# EAGLE library part CON_PINHD-1X12 (library akita)
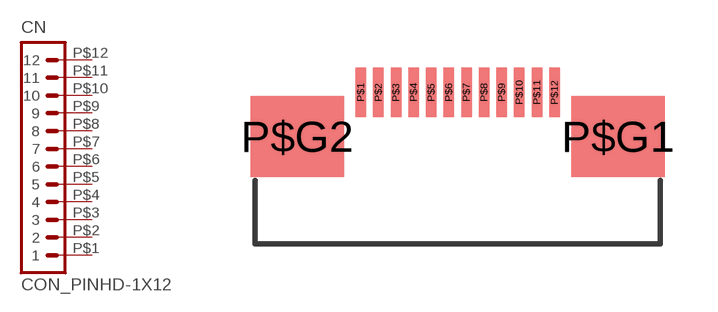
[diagram p204: symbol with the pads of CON_FPC_05MM12P; footprint CON_FPC_05MM12P]

Designator prefix CN

## CON_PINHD-1X12  [CON_FPC_05MM12P]
P$1  1  pas
P$2  2  pas
P$3  3  pas
P$4  4  pas
P$5  5  pas
P$6  6  pas
P$7  7  pas
P$8  8  pas
P$9  9  pas
P$10  10  pas
P$11  11  pas
P$12  12  pas

## Footprint CON_FPC_05MM12P (pad centres in mm)
FPC connector, 0.5mm/12p, SFV12R-2STE1HLF
smd 0.3 x 1.4: P$1 -2.75,2; P$2 -2.25,2; P$3 -1.75,2; P$4 -1.25,2; P$5 -0.75,2; P$6 -0.25,2; P$7 0.25,2; P$8 0.75,2; P$9 1.25,2; P$10 1.75,2; P$11 2.25,2; P$12 2.75,2
smd 2.65 x 2.3: P$G1 4.55,0.75; P$G2 -4.55,0.75